# Altium footprint library pcb.PcbLib: 30 footprints (part 2 of 2)
Each footprint in its own frame and in the unit in brackets; x right, y up, seen from the top. Pads: shape width x height; smd on the part's side, far side on the other; paste and mask are expansions set on the pad; w line width, h text height; cw(c..) or ccw(c..) is an arc to the next point about the centre after c.
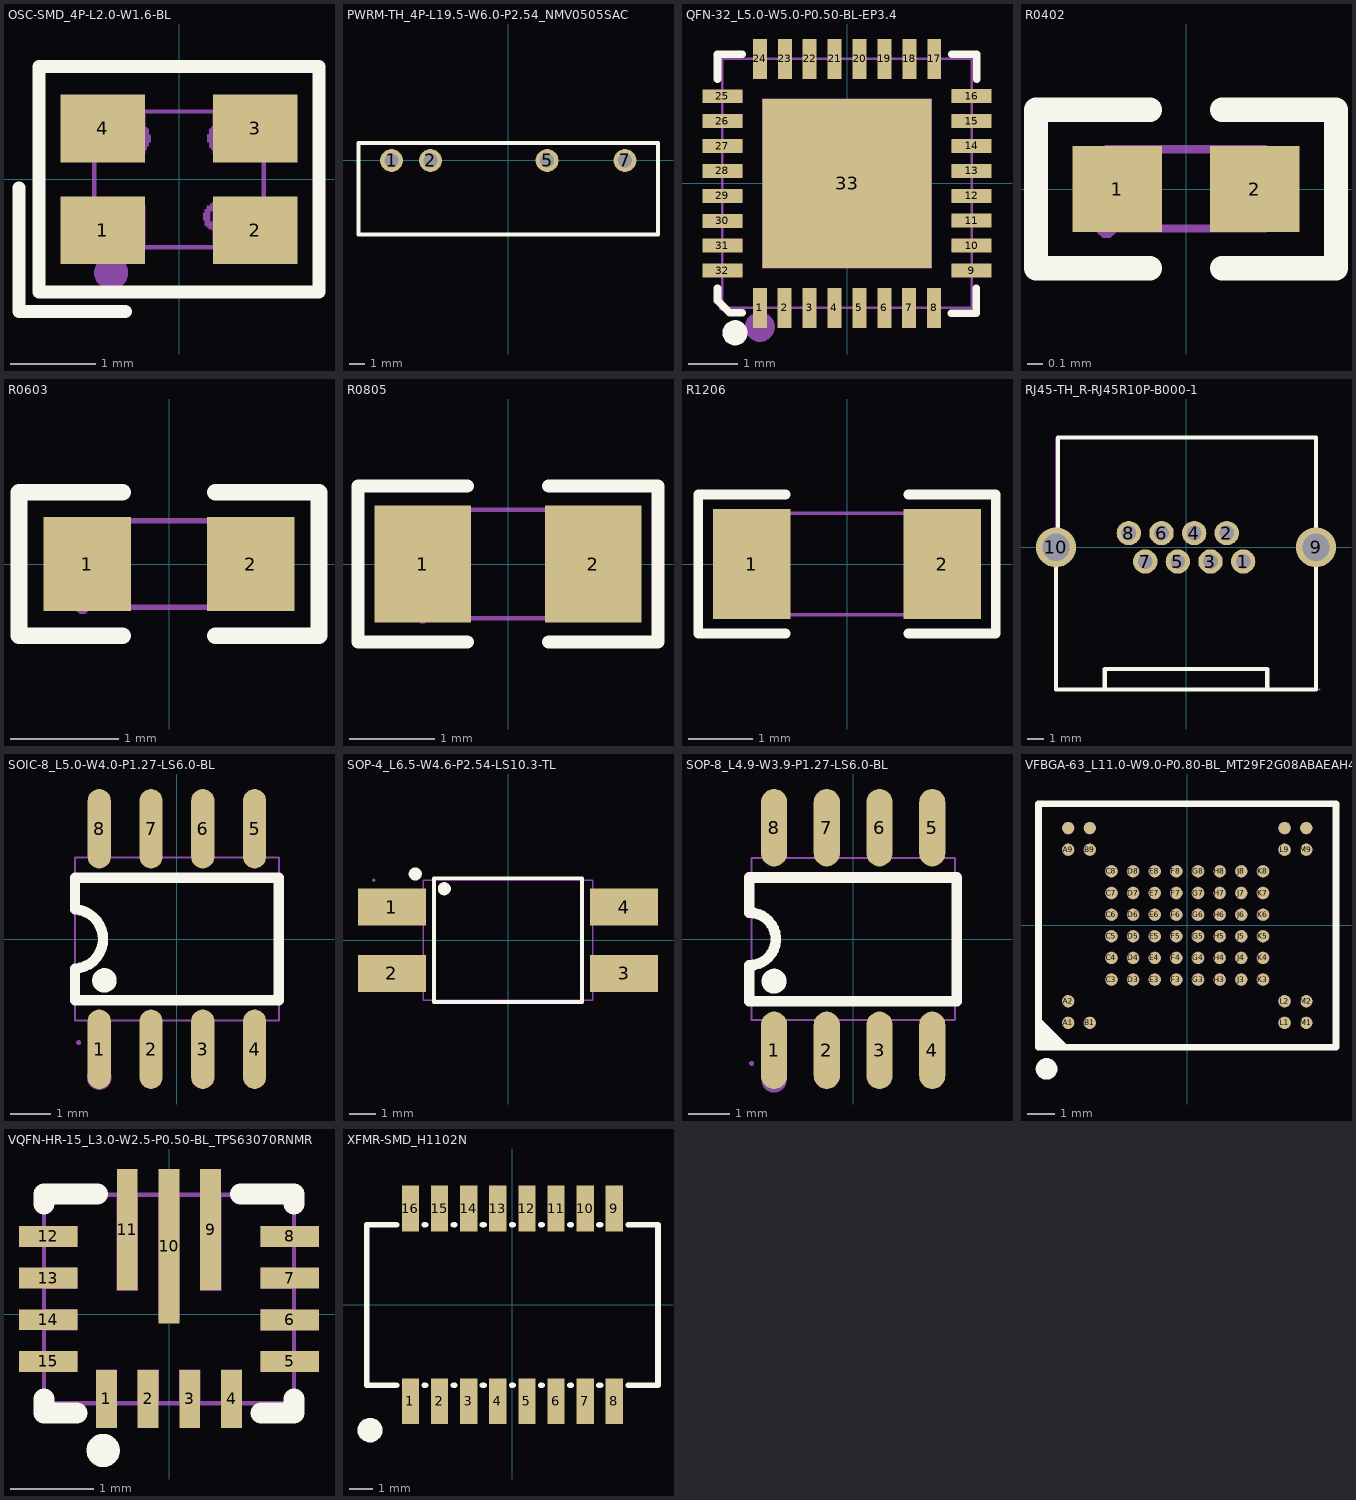
[diagram p1: the footprints below, top view; thin cyan lines are the x and y axes]

## OSC-SMD_4P-L2.0-W1.6-BL [mm]
pads (4):
  rect 1x0.8 smd: 1(-0.9,-0.6) 2(0.9,-0.6) 3(0.9,0.6) 4(-0.9,0.6)
Top Overlay:
  lines w0.152: -1.887,-0.1 -1.887,-1.557 -0.63,-1.557 ; -1.651,-1.328 -1.651,1.328 1.651,1.328 1.651,-1.328 -1.529,-1.328 -1.651,-1.328
Mechanical 6:
  drawing of 242 lines, arcs and shapes, not listed
Mechanical 15:
  region: 0.975,0.767 0.975,0.31 0.4,0.31 0.4,0.767
  region: -0.975,-0.764 -0.975,-0.307 -0.4,-0.307 -0.4,-0.764
  region: 0.4,-0.764 0.4,-0.307 0.975,-0.307 0.975,-0.764
  region: -0.4,0.767 -0.4,0.31 -0.975,0.31 -0.975,0.767
  region: -0.94,-0.8 -0.94,-0.775 -0.975,-0.74 -1.025,-0.74 -1.06,-0.775 -1.06,-0.8 -1.06,-0.825 -1.025,-0.86 -0.975,-0.86 -0.94,-0.825 -0.94,-0.8
  lines w0.051: -1,-0.8 1,-0.8 1,0.8 -1,0.8 -1,-0.8

## PWRM-TH_4P-L19.5-W6.0-P2.54_NMV0505SAC [mm]
pads (4):
  round 1.5 hole 0.9 paste-2539.97 mask+0.05: 1(-7.62,0) 2(-5.08,0) 5(2.54,0) 7(7.62,0)
Top Overlay:
  lines w0.254: -9.779,-4.826 9.779,-4.826 9.779,1.143 -9.779,1.143 -9.779,-4.826
Mechanical 15:
  region: -9.69,-4.35 -9.69,-4.325 -9.725,-4.29 -9.775,-4.29 -9.81,-4.325 -9.81,-4.35 -9.81,-4.375 -9.775,-4.41 -9.725,-4.41 -9.69,-4.375 -9.69,-4.35
  region: 7.37,0.15 7.87,0.15 7.87,-0.15 7.37,-0.15
  region: 2.29,0.15 2.79,0.15 2.79,-0.15 2.29,-0.15
  region: -5.33,0.15 -4.83,0.15 -4.83,-0.15 -5.33,-0.15
  region: -7.87,0.15 -7.37,0.15 -7.37,-0.15 -7.87,-0.15
  lines w0.051: -9.75,-4.87 -9.75,1.13 9.75,1.13 9.75,-4.87 -9.75,-4.87

## QFN-32_L5.0-W5.0-P0.50-BL-EP3.4 [mm]
pads (33):
  rect 0.28x0.8 smd paste-100 mask+0.05: 1(-1.75,-2.5) 2(-1.251,-2.5) 3(-0.751,-2.5) 4(-0.251,-2.5) 5(0.249,-2.5) 6(0.749,-2.5) 7(1.249,-2.5) 8(1.749,-2.5) 17(1.752,2.5) 18(1.251,2.5) 19(0.752,2.5) 20(0.251,2.5) 21(-0.248,2.5) 22(-0.749,2.5) 23(-1.248,2.5) 24(-1.749,2.5)
  rect 0.8x0.28 smd paste-100 mask+0.05: 9(2.5,-1.748) 10(2.5,-1.248) 11(2.5,-0.748) 12(2.5,-0.248) 13(2.5,0.252) 14(2.5,0.752) 15(2.5,1.252) 16(2.5,1.752) 25(-2.5,1.75) 26(-2.5,1.25) 27(-2.5,0.75) 28(-2.5,0.25) 29(-2.5,-0.25) 30(-2.5,-0.75) 31(-2.5,-1.25) 32(-2.5,-1.75)
  rect 3.4x3.4 smd paste-100 mask+0.05: 33(0,0)
Top Overlay:
  circle w0.254: c-2.248,-2.998 r0.125
  lines w0.152: -2.6,-2.1 -2.6,-2.35 -2.35,-2.6 -2.1,-2.6 ; -2.599,2.097 -2.599,2.597 -2.099,2.597 ; 2.098,-2.602 2.598,-2.602 2.598,-2.103 ; 2.103,2.597 2.602,2.597 2.602,2.097
Top Paste:
  drawing of 33 lines, arcs and shapes, not listed
Mechanical 6:
  circle w0.3: c-1.75,-2.88 r0.15
Mechanical 15:
  drawing of 38 lines, arcs and shapes, not listed

## R0402 [mm]
pads (2):
  rect 0.566x0.54 smd paste-100 mask+0.051: 1(-0.433,0) 2(0.433,0)
Top Overlay:
  lines w0.152: -0.226,-0.499 -0.944,-0.499 -0.944,0.499 -0.226,0.499 ; 0.226,-0.499 0.944,-0.499 0.944,0.499 0.226,0.499
Top Paste:
  region: -0.135,-0.23 -0.135,0.23 -0.175,0.27 -0.676,0.27 -0.716,0.23 -0.716,-0.23 -0.676,-0.27 -0.175,-0.27
  region: 0.135,-0.23 0.135,0.23 0.175,0.27 0.676,0.27 0.716,0.23 0.716,-0.23 0.676,-0.27 0.175,-0.27
Mechanical 15:
  region: -0.44,-0.25 -0.441,-0.226 -0.476,-0.193 -0.524,-0.193 -0.559,-0.226 -0.56,-0.25 -0.559,-0.274 -0.524,-0.307 -0.476,-0.307 -0.441,-0.274 -0.44,-0.25
  region: -0.249,0.25 -0.249,-0.25 -0.499,-0.25 -0.499,0.25
  region: 0.251,-0.25 0.251,0.25 0.501,0.25 0.501,-0.25
  lines w0.051: -0.5,-0.25 0.5,-0.25 0.5,0.25 -0.5,0.25 -0.5,-0.25

## R0603 [mm]
pads (2):
  rect 0.806x0.864 smd paste-100 mask+0.051: 1(-0.753,0) 2(0.753,0)
Top Overlay:
  lines w0.152: -0.426,-0.661 -1.385,-0.661 -1.385,0.661 -0.426,0.661 ; 0.426,-0.661 1.385,-0.661 1.385,0.661 0.426,0.661
Top Paste:
  region: 1.195,0.45 0.395,0.45 0.345,0.4 0.345,0.172 0.715,0.172 0.715,-0.158 0.345,-0.158 0.345,-0.4 0.395,-0.45 1.195,-0.45 1.245,-0.4 1.245,0.4
  region: -1.195,-0.45 -0.395,-0.45 -0.345,-0.4 -0.345,-0.172 -0.715,-0.172 -0.715,0.158 -0.345,0.158 -0.345,0.4 -0.395,0.45 -1.195,0.45 -1.245,0.4 -1.245,-0.4
Mechanical 15:
  region: -0.74,-0.4 -0.74,-0.375 -0.775,-0.34 -0.825,-0.34 -0.86,-0.375 -0.86,-0.4 -0.86,-0.425 -0.825,-0.46 -0.775,-0.46 -0.74,-0.425 -0.74,-0.4
  region: -0.8,-0.4 -0.8,0.4 -0.5,0.4 -0.5,-0.4
  region: 0.8,-0.4 0.8,0.4 0.5,0.4 0.5,-0.4
  lines w0.051: -0.8,-0.4 -0.8,0.4 0.8,0.4 0.8,-0.4 -0.8,-0.4

## R0805 [mm]
pads (2):
  rect 1.133x1.377 smd paste-100 mask+0.051: 1(-1,0) 2(1,0)
Top Overlay:
  lines w0.152: -0.476,-0.917 -1.761,-0.917 -1.761,0.917 -0.476,0.917 ; 0.476,-0.917 1.761,-0.917 1.761,0.917 0.476,0.917
Top Paste:
  region: -1.7,-0.64 -1.7,0.64 -1.65,0.69 -0.5,0.69 -0.45,0.64 -0.445,0.23 -0.895,0.23 -0.895,-0.22 -0.455,-0.22 -0.45,-0.64 -0.5,-0.69 -1.65,-0.69
  region: 0.45,-0.64 0.45,-0.22 0.895,-0.22 0.895,0.23 0.455,0.23 0.45,0.64 0.5,0.69 1.65,0.69 1.7,0.64 1.7,-0.64 1.65,-0.69 0.5,-0.69
Mechanical 15:
  region: -1,-0.637 -1,0.637 -0.6,0.637 -0.6,-0.637
  region: 1,-0.637 1,0.637 0.6,0.637 0.6,-0.637
  region: -0.94,-0.638 -0.941,-0.613 -0.976,-0.58 -1.024,-0.58 -1.059,-0.613 -1.06,-0.638 -1.059,-0.662 -1.024,-0.695 -0.976,-0.695 -0.941,-0.662 -0.94,-0.638
  lines w0.051: -1,-0.637 -1,0.637 1,0.637 1,-0.637 -1,-0.637

## R1206 [mm]
pads (2):
  rect 1.208x1.701 smd paste-100 mask+0.051: 1(-1.479,0) 2(1.479,0)
Top Overlay:
  lines w0.152: -0.951,-1.079 -2.311,-1.079 -2.311,1.079 -0.951,1.079 ; 0.951,-1.079 2.311,-1.079 2.311,1.079 0.951,1.079
Top Paste:
  region: -0.875,-0.75 -0.875,-0.389 -0.975,-0.289 -1.186,-0.289 -1.286,-0.189 -1.286,0.189 -1.186,0.289 -0.975,0.289 -0.875,0.389 -0.875,0.75 -0.975,0.85 -1.983,0.85 -2.083,0.75 -2.083,-0.75 -1.983,-0.85 -0.975,-0.85
  region: 0.875,-0.75 0.875,-0.389 0.975,-0.289 1.186,-0.289 1.286,-0.189 1.286,0.189 1.186,0.289 0.975,0.289 0.875,0.389 0.875,0.75 0.975,0.85 1.983,0.85 2.083,0.75 2.083,-0.75 1.983,-0.85 0.975,-0.85
Mechanical 15:
  region: 1.55,-0.788 1.55,0.788 1.1,0.788 1.1,-0.788
  region: -1.55,-0.788 -1.55,0.788 -1.1,0.788 -1.1,-0.788
  region: -1.49,-0.787 -1.49,-0.763 -1.525,-0.727 -1.575,-0.727 -1.61,-0.763 -1.61,-0.787 -1.61,-0.812 -1.575,-0.847 -1.525,-0.847 -1.49,-0.812 -1.49,-0.787
  lines w0.051: -1.55,-0.788 1.55,-0.788 1.55,0.788 -1.55,0.788 -1.55,-0.788

## RJ45-TH_R-RJ45R10P-B000-1 [mil]
pads (10):
  round 60 hole 36 paste-99999 mask+1.97: 1(140.55,-35.04) 2(100.39,35.04) 3(60.23,-35.04) 4(20.08,35.04) 5(-20.08,-35.04) 6(-60.24,35.04) 7(-100.39,-35.04) 8(-140.55,35.04)
  round 98.42 hole 66.93 paste-99999 mask+1.97: 9(319.88,0) 10(-319.88,0)
Top Overlay:
  lines w10: -320,-120.49 -320,-41.06 ; -320,-115 -320,-350 320,-350 320,-110 ; -315,50 -315,270 320,270 320,41.06 ; -200,-350 -200,-300 200,-300 200,-350 ; 320,-120.49 320,-41.06
Mechanical 15:
  drawing of 15 lines, arcs and shapes, not listed

## SOIC-8_L5.0-W4.0-P1.27-LS6.0-BL [mil]
pads (8):
  oval 22.38x76.78 smd: 1(-75,-106.5) 2(-25,-106.5) 3(25,-106.5) 4(75,-106.5) 5(75,106.5) 6(25,106.5) 7(-25,106.5) 8(-75,106.5)
Top Overlay:
  circle w11.81: c-70,-40 r5.91
  lines w10: -98.43,-28.61 ccw(c-99.99,0) -98.23,28.59 ; -98.42,-28.61 -98.42,-59.05 98.42,-59.05 98.42,59.05 -98.42,59.05 -98.42,28.59
Mechanical 6:
  circle w11.81: c-75,-133.86 r5.91
Mechanical 15:
  region: -92.64,-100 -92.68,-99.05 -94.05,-97.75 -95.94,-97.75 -97.31,-99.05 -97.36,-100 -97.31,-100.94 -95.95,-102.25 -94.05,-102.25 -92.68,-100.95 -92.64,-100
  region: 66.93,76.38 66.93,85.63 83.07,85.63 83.07,76.38
  region: 66.93,85.24 66.93,118.11 83.07,118.11 83.07,85.24
  region: 16.93,76.38 16.93,85.63 33.07,85.63 33.07,76.38
  region: 16.93,85.24 16.93,118.11 33.07,118.11 33.07,85.24
  region: -33.07,76.38 -33.07,85.63 -16.93,85.63 -16.93,76.38
  region: -33.07,85.24 -33.07,118.11 -16.93,118.11 -16.93,85.24
  region: -83.07,76.38 -83.07,85.63 -66.93,85.63 -66.93,76.38
  region: -83.07,85.24 -83.07,118.11 -66.93,118.11 -66.93,85.24
  region: 66.93,-85.63 66.93,-76.38 83.07,-76.38 83.07,-85.63
  region: 66.93,-118.11 66.93,-85.24 83.07,-85.24 83.07,-118.11
  region: 16.93,-85.63 16.93,-76.38 33.07,-76.38 33.07,-85.63
  region: 16.93,-118.11 16.93,-85.24 33.07,-85.24 33.07,-118.11
  region: -33.07,-85.63 -33.07,-76.38 -16.93,-76.38 -16.93,-85.63
  region: -33.07,-118.11 -33.07,-85.24 -16.93,-85.24 -16.93,-118.11
  region: -83.07,-85.63 -83.07,-76.38 -66.93,-76.38 -66.93,-85.63
  region: -83.07,-118.11 -83.07,-85.24 -66.93,-85.24 -66.93,-118.11
  lines w2: -98.42,-78.74 -98.42,78.74 98.42,78.74 98.42,-78.74 -98.42,-78.74

## SOP-4_L6.5-W4.6-P2.54-LS10.3-TL [mm]
pads (4):
  rect 2.6x1.422 smd: 1(-4.45,1.27) 2(-4.45,-1.27) 3(4.45,-1.27) 4(4.45,1.27)
Top Overlay:
  circle w0.25: c-3.556,2.54 r0.125
  circle w0.25: c-2.443,1.974 r0.125
  lines w0.152: -2.845,-2.376 -2.845,2.376 2.845,2.376 2.845,-2.376 -2.845,-2.376
Mechanical 6:
  circle w0.4: c-4.064,1.27 r0.2
Mechanical 15:
  region: 4.16,0.67 3.24,0.67 3.24,1.87 4.16,1.87
  region: 5.15,0.67 4.15,0.67 4.15,1.87 5.15,1.87
  region: 4.16,-1.87 3.24,-1.87 3.24,-0.67 4.16,-0.67
  region: 5.15,-1.87 4.15,-1.87 4.15,-0.67 5.15,-0.67
  region: -4.16,-1.87 -3.24,-1.87 -3.24,-0.67 -4.16,-0.67
  region: -5.15,-1.87 -4.15,-1.87 -4.15,-0.67 -5.15,-0.67
  region: -4.16,0.67 -3.24,0.67 -3.24,1.87 -4.16,1.87
  region: -5.15,0.67 -4.15,0.67 -4.15,1.87 -5.15,1.87
  region: -5.09,2.3 -5.091,2.324 -5.126,2.357 -5.174,2.357 -5.209,2.324 -5.21,2.3 -5.209,2.276 -5.174,2.243 -5.126,2.243 -5.091,2.276 -5.09,2.3
  lines w0.051: -3.25,-2.3 -3.25,2.3 3.25,2.3 3.25,-2.3 -3.25,-2.3

## SOP-8_L4.9-W3.9-P1.27-LS6.0-BL [mm]
pads (8):
  oval 0.63x1.865 smd: 1(-1.905,-2.682) 2(-0.635,-2.682) 3(0.635,-2.682) 4(1.905,-2.682) 5(1.905,2.682) 6(0.635,2.682) 7(-0.635,2.682) 8(-1.905,2.682)
Top Overlay:
  circle w0.3: c-1.905,-1.016 r0.15
  lines w0.254: -2.5,-1.498 2.5,-1.498 2.5,1.482 -2.5,1.482 -2.499,0.635 cw(c-2.5,0) -2.5,-0.635 -2.5,-1.498
Mechanical 6:
  circle w0.3: c-1.905,-3.4 r0.15
Mechanical 15:
  region: 2.115,-2.232 1.695,-2.232 1.695,-1.942 2.115,-1.942
  region: 0.845,-2.232 0.425,-2.232 0.425,-1.942 0.845,-1.942
  region: -0.425,-2.232 -0.845,-2.232 -0.845,-1.942 -0.425,-1.942
  region: -1.695,-2.232 -2.115,-2.232 -2.115,-1.942 -1.695,-1.942
  region: -2.115,2.232 -1.695,2.232 -1.695,1.942 -2.115,1.942
  region: -0.845,2.232 -0.425,2.232 -0.425,1.942 -0.845,1.942
  region: 0.425,2.232 0.845,2.232 0.845,1.942 0.425,1.942
  region: 1.695,2.232 2.115,2.232 2.115,1.942 1.695,1.942
  region: -2.115,-3 -2.115,-2.165 -1.695,-2.165 -1.695,-3
  region: -0.845,-3 -0.845,-2.165 -0.425,-2.165 -0.425,-3
  region: 0.425,-3 0.425,-2.165 0.845,-2.165 0.845,-3
  region: 1.695,-3 1.695,-2.165 2.115,-2.165 2.115,-3
  region: -2.115,2.165 -2.115,3 -1.695,3 -1.695,2.165
  region: -0.845,2.165 -0.845,3 -0.425,3 -0.425,2.165
  region: 0.425,2.165 0.425,3 0.845,3 0.845,2.165
  region: 1.695,2.165 1.695,3 2.115,3 2.115,2.165
  region: -2.39,-3 -2.391,-2.976 -2.426,-2.943 -2.474,-2.943 -2.509,-2.976 -2.51,-3 -2.509,-3.024 -2.474,-3.058 -2.426,-3.058 -2.391,-3.024 -2.39,-3
  lines w0.051: -2.45,-1.95 2.45,-1.95 2.45,1.95 -2.45,1.95 -2.45,-1.95

## VFBGA-63_L11.0-W9.0-P0.80-BL_MT29F2G08ABAEAH4-IT-E [mm]
pads (63):
  round 0.45 smd: A1(-4.4,-3.6) A2(-4.4,-2.8) A9(-4.4,2.8) A10(-4.4,3.6) B1(-3.6,-3.6) B9(-3.6,2.8) B10(-3.6,3.6) C3(-2.8,-2) C4(-2.8,-1.2) C5(-2.8,-0.4) C6(-2.8,0.4) C7(-2.8,1.2) C8(-2.8,2) D3(-2,-2) D4(-2,-1.2) D5(-2,-0.4) D6(-2,0.4) D7(-2,1.2) D8(-2,2) E3(-1.2,-2) E4(-1.2,-1.2) E5(-1.2,-0.4) E6(-1.2,0.4) E7(-1.2,1.2) E8(-1.2,2) F3(-0.4,-2) F4(-0.4,-1.2) F5(-0.4,-0.4) F6(-0.4,0.4) F7(-0.4,1.2) F8(-0.4,2) G3(0.4,-2) G4(0.4,-1.2) G5(0.4,-0.4) G6(0.4,0.4) G7(0.4,1.2) G8(0.4,2) H3(1.2,-2) H4(1.2,-1.2) H5(1.2,-0.4) H6(1.2,0.4) H7(1.2,1.2) H8(1.2,2) J3(2,-2) J4(2,-1.2) J5(2,-0.4) J6(2,0.4) J7(2,1.2) J8(2,2) K3(2.8,-2) K4(2.8,-1.2) K5(2.8,-0.4) K6(2.8,0.4) K7(2.8,1.2) K8(2.8,2) L1(3.6,-3.6) L2(3.6,-2.8) L9(3.6,2.8) L10(3.6,3.6) M1(4.4,-3.6) M2(4.4,-2.8) M9(4.4,2.8) M10(4.4,3.6)
Top Overlay:
  region: -5.5,-3.5 -4.5,-4.5 -5.5,-4.5
  lines w0.2: -5.5,-3.5 -4.5,-4.5
  lines w0.254: -5.5,-4.5 -5.5,4.5 5.5,4.5 5.5,-4.5 -5.5,-4.5
  lines w0.4: -5.199,-5.1 ccw(c-5.198,-5.3) -5.197,-5.1
Mechanical 6:
  region: -5.588,-3.556 -5.588,-4.572 -4.572,-4.572
Mechanical 15:
  drawing of 68 lines, arcs and shapes, not listed

## VQFN-HR-15_L3.0-W2.5-P0.50-BL_TPS63070RNMR [mm]
pads (15):
  rect 0.25x0.7 smd: 1(-0.75,-1.016) 2(-0.25,-1.016) 3(0.25,-1.016) 4(0.75,-1.016)
  rect 0.7x0.25 smd: 5(1.45,-0.566) 6(1.45,-0.066) 7(1.45,0.434) 8(1.45,0.934) 12(-1.45,0.934) 13(-1.45,0.434) 14(-1.45,-0.066) 15(-1.45,-0.566)
  rect 0.25x1.45 smd: 9(0.5,1.016) 11(-0.5,1.016)
  rect 0.25x1.85 smd: 10(0,0.816)
Top Overlay:
  circle w0.2: c-0.79,-1.634 r0.1
  lines w0.254: -1.5,-1.015 -1.5,-1.184 -1.106,-1.184 ; -1.5,1.324 -1.5,1.443 -0.856,1.443 ; 0.856,1.443 1.5,1.443 1.5,1.324 ; 1.106,-1.184 1.5,-1.184 1.5,-1.015
Mechanical 15:
  region: -1.44,-1.066 -1.44,-1.042 -1.475,-1.006 -1.525,-1.006 -1.56,-1.042 -1.56,-1.066 -1.56,-1.091 -1.525,-1.126 -1.475,-1.127 -1.44,-1.091 -1.44,-1.066
  region: -0.625,1.433 -0.375,1.433 -0.375,0.283 -0.625,0.283
  region: 0.375,1.433 0.625,1.433 0.625,0.283 0.375,0.283
  region: -0.125,1.433 0.125,1.433 0.125,-0.067 -0.125,-0.067
  region: 1.5,1.059 1.5,0.809 1.1,0.809 1.1,1.059
  region: 1.5,0.559 1.5,0.309 1.1,0.309 1.1,0.559
  region: -1.5,0.809 -1.5,1.059 -1.1,1.059 -1.1,0.809
  region: -1.5,0.309 -1.5,0.559 -1.1,0.559 -1.1,0.309
  region: 1.5,-0.441 1.5,-0.691 1.1,-0.691 1.1,-0.441
  region: 1.5,0.059 1.5,-0.191 1.1,-0.191 1.1,0.059
  region: -1.5,-0.691 -1.5,-0.441 -1.1,-0.441 -1.1,-0.691
  region: -1.5,-0.191 -1.5,0.059 -1.1,0.059 -1.1,-0.191
  region: -0.625,-1.066 -0.875,-1.066 -0.875,-0.666 -0.625,-0.666
  region: -0.125,-1.066 -0.375,-1.066 -0.375,-0.666 -0.125,-0.666
  region: 0.375,-1.066 0.125,-1.066 0.125,-0.666 0.375,-0.666
  region: 0.875,-1.066 0.625,-1.066 0.625,-0.666 0.875,-0.666
  lines w0.051: -1.5,-1.066 -1.5,1.433 1.5,1.433 1.5,-1.066 -1.5,-1.066

## XFMR-SMD_H1102N [mm]
pads (16):
  rect 0.75x2 smd: 1(-4.445,-4.2) 2(-3.175,-4.2) 3(-1.905,-4.2) 4(-0.635,-4.2) 5(0.635,-4.2) 6(1.905,-4.2) 7(3.175,-4.2) 8(4.445,-4.2) 9(4.445,4.2) 10(3.175,4.2) 11(1.905,4.2) 12(0.635,4.2) 13(-0.635,4.2) 14(-1.905,4.2) 15(-3.175,4.2) 16(-4.445,4.2)
Top Overlay:
  region: -6.731,-5.461 -6.731,-5.356 -6.651,-5.162 -6.502,-5.013 -6.308,-4.932 -6.097,-4.932 -5.903,-5.013 -5.754,-5.162 -5.674,-5.356 -5.674,-5.461 -5.674,-5.566 -5.754,-5.76 -5.903,-5.909 -6.097,-5.99 -6.308,-5.99 -6.502,-5.909 -6.651,-5.76 -6.731,-5.566 -6.731,-5.461
  lines w0.254: -5.051,-3.5 -6.35,-3.5 -6.35,3.5 -5.051,3.5 ; -3.839,-3.5 -3.781,-3.5 ; -3.839,3.5 -3.781,3.5 ; -2.569,-3.5 -2.511,-3.5 ; -2.569,3.5 -2.511,3.5 ; -1.299,-3.5 -1.241,-3.5 ; -1.299,3.5 -1.241,3.5 ; -0.029,-3.5 0.029,-3.5 ; -0.029,3.5 0.029,3.5 ; 1.241,-3.5 1.299,-3.5 ; 1.241,3.5 1.299,3.5 ; 2.511,-3.5 2.569,-3.5 ; 2.511,3.5 2.569,3.5 ; 3.781,-3.5 3.839,-3.5 ; 3.781,3.5 3.839,3.5 ; 5.051,-3.5 6.35,-3.5 6.35,3.5 5.051,3.5